# EAGLE library part TLV5618 (library EE445L)
TLV5618 dual 12-bit DAC
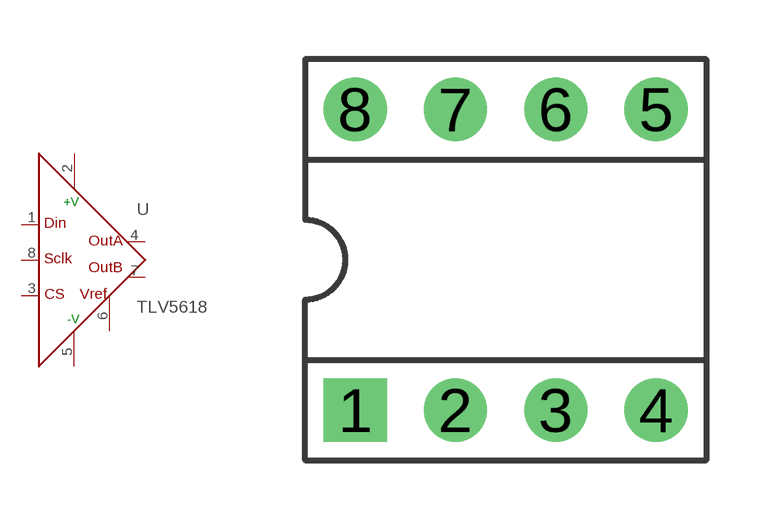
[diagram p28: symbol with the pads of DIL08; footprint DIL08]

Designator prefix U

## TLV5618  [DIL08]
1  DIN  in
2  VDD  pwr
3  CS  in
4  OUTA  out
5  AGND  pwr
6  REFIN  pas
7  OUTB  out
8  SCLK  in

## Footprint DIL08 (pad centres in mm)
Dual In Line 0.8mm holes, 2.54mm=100mil spacing
drill 1 pad 1.6 square: 1 -3.81,-3.81
drill 1 pad 1.6: 2 -1.27,-3.81; 3 1.27,-3.81; 4 3.81,-3.81; 5 3.81,3.81; 6 1.27,3.81; 7 -1.27,3.81; 8 -3.81,3.81